# EAGLE library part NACHTELK_HEADERCONNECTORS_2X14 (library NachtElk_HeaderConnectors)
Nacht Elk. - Header Connectors Ekrem Turan Fırat Nacht Elk. - Header Connectors 2x14 Female or Male Pin Spacing: 2.54mm Mount Type: DIP Operating Temperature: -40°C up to 105°C 17.02.2022
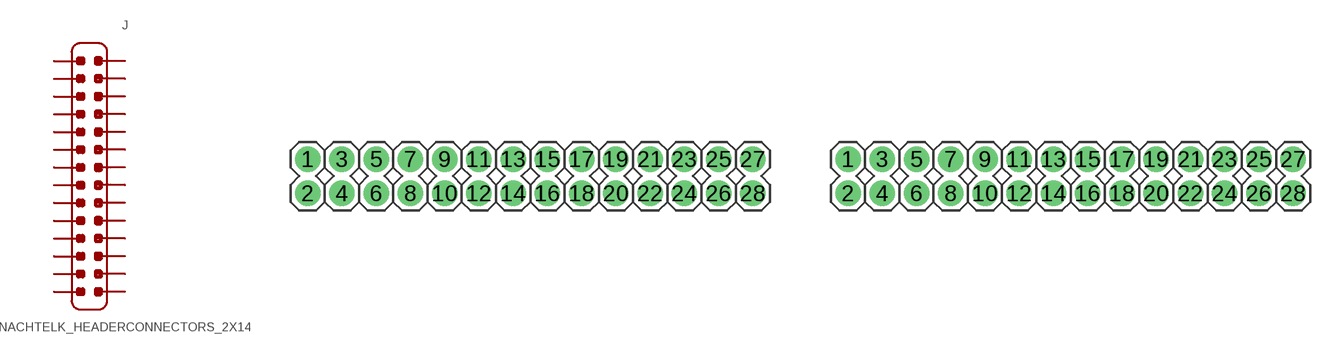
[diagram p2: symbol with the pads of HEADER_2X14; footprints HEADER_2X14, HEADER_2X14F]

Designator prefix J

## NACHTELK_HEADERCONNECTORS_2X14_MALE (MOUNT-TYPE: DIP; TEMPERATURE: -40°C up to 105°C; TYPE: Male; VALUE: 2x14)  [HEADER_2X14]
1  1
2  2
3  3
4  4
5  5
6  6
7  7
8  8
9  9
10  10
11  11
12  12
13  13
14  14
15  15
16  16
17  17
18  18
19  19
20  20
21  21
22  22
23  23
24  24
25  25
26  26
27  27
28  28

## NACHTELK_HEADERCONNECTORS_2X14_FEMALE (MOUNT-TYPE: DIP; TEMPERATURE: -40°C up to 105°C; TYPE: Female; VALUE: 2x14)  [HEADER_2X14F]
Pads as for HEADER_2X14

## Footprint HEADER_2X14 (pad centres in mm)
Nacht Elk. - Header Connectors Ekrem Turan Fırat 17.02.2022
drill 1.016 pad 1.88: 1 0,0; 2 0,-2.54; 3 2.54,0; 4 2.54,-2.54; 5 5.08,0; 6 5.08,-2.54; 7 7.62,0; 8 7.62,-2.54; 9 10.16,0; 10 10.16,-2.54; 11 12.7,0; 12 12.7,-2.54; 13 15.24,0; 14 15.24,-2.54; 15 17.78,0; 16 17.78,-2.54; 17 20.32,0; 18 20.32,-2.54; 19 22.86,0; 20 22.86,-2.54; 21 25.4,0; 22 25.4,-2.54; 23 27.94,0; 24 27.94,-2.54; 25 30.48,0; 26 30.48,-2.54; 27 33.02,0; 28 33.02,-2.54

## Footprint HEADER_2X14F (pad centres in mm)
Nacht Elk. - Header Connectors Ekrem Turan Fırat 17.02.2022
drill 1.016 pad 1.88: 1 0,0; 2 0,-2.54; 3 2.54,0; 4 2.54,-2.54; 5 5.08,0; 6 5.08,-2.54; 7 7.62,0; 8 7.62,-2.54; 9 10.16,0; 10 10.16,-2.54; 11 12.7,0; 12 12.7,-2.54; 13 15.24,0; 14 15.24,-2.54; 15 17.78,0; 16 17.78,-2.54; 17 20.32,0; 18 20.32,-2.54; 19 22.86,0; 20 22.86,-2.54; 21 25.4,0; 22 25.4,-2.54; 23 27.94,0; 24 27.94,-2.54; 25 30.48,0; 26 30.48,-2.54; 27 33.02,0; 28 33.02,-2.54